# Altium footprint library Connector_Molex.PcbLib: 815 footprints (part 48 of 51)
Each footprint in its own frame and in the unit in brackets; x right, y up, seen from the top. Pads: shape width x height; smd on the part's side, far side on the other; paste and mask are expansions set on the pad; w line width, h text height; cw(c..) or ccw(c..) is an arc to the next point about the centre after c.
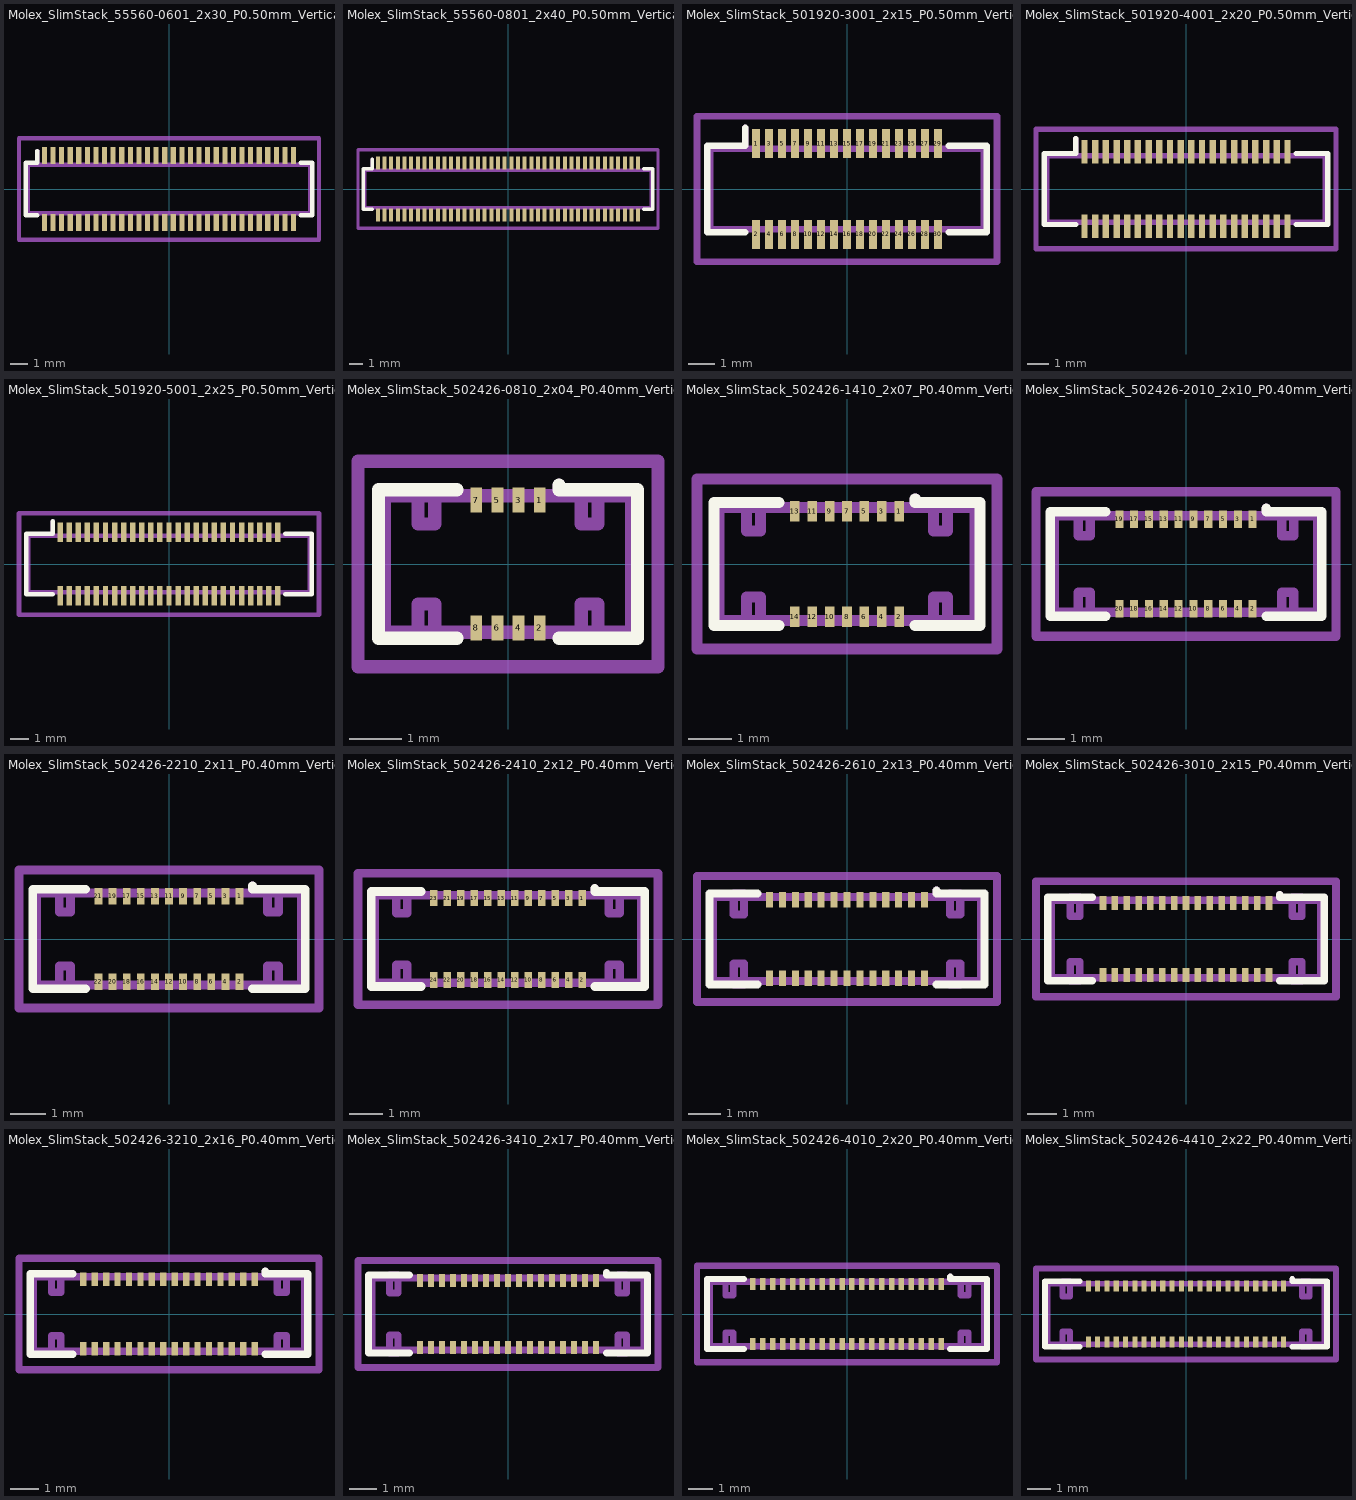
[diagram p47: the footprints below, top view; thin cyan lines are the x and y axes]

## Molex_SlimStack_55560-0601_2x30_P0.50mm_Vertical [mm]
pads (60):
  rect 0.3x1 smd: 1(-7.25,1.95) 2(-7.25,-1.95) 3(-6.75,1.95) 4(-6.75,-1.95) 5(-6.25,1.95) 6(-6.25,-1.95) 7(-5.75,1.95) 8(-5.75,-1.95) 9(-5.25,1.95) 10(-5.25,-1.95) 11(-4.75,1.95) 12(-4.75,-1.95) 13(-4.25,1.95) 14(-4.25,-1.95) 15(-3.75,1.95) 16(-3.75,-1.95) 17(-3.25,1.95) 18(-3.25,-1.95) 19(-2.75,1.95) 20(-2.75,-1.95) 21(-2.25,1.95) 22(-2.25,-1.95) 23(-1.75,1.95) 24(-1.75,-1.95) 25(-1.25,1.95) 26(-1.25,-1.95) 27(-0.75,1.95) 28(-0.75,-1.95) 29(-0.25,1.95) 30(-0.25,-1.95) 31(0.25,1.95) 32(0.25,-1.95) 33(0.75,1.95) 34(0.75,-1.95) 35(1.25,1.95) 36(1.25,-1.95) 37(1.75,1.95) 38(1.75,-1.95) 39(2.25,1.95) 40(2.25,-1.95) 41(2.75,1.95) 42(2.75,-1.95) 43(3.25,1.95) 44(3.25,-1.95) 45(3.75,1.95) 46(3.75,-1.95) 47(4.25,1.95) 48(4.25,-1.95) 49(4.75,1.95) 50(4.75,-1.95) 51(5.25,1.95) 52(5.25,-1.95) 53(5.75,1.95) 54(5.75,-1.95) 55(6.25,1.95) 56(6.25,-1.95) 57(6.75,1.95) 58(6.75,-1.95) 59(7.25,1.95) 60(7.25,-1.95)
F.SilkS:
  lines w0.254: -7.66,-1.525 -8.335,-1.525 -8.335,1.525 -7.66,1.525 -7.66,2.215 ; 7.66,-1.525 8.335,-1.525 8.335,1.525 7.66,1.525
Top Assembly:
  lines w0.254: -7.66,1.525 -7.66,2.215 ; -8.225,-1.415 8.225,-1.415 8.225,1.415 -8.225,1.415 -8.225,-1.415
  text "'.Designator'" at -4.047,-0.84 h1
Top Courtyard:
  lines w0.254: -8.73,-2.95 8.73,-2.95 8.73,2.95 -8.73,2.95 -8.73,-2.95
Top Designator:
  text ".Designator" at -7.618,-0.508 h1.52

## Molex_SlimStack_55560-0801_2x40_P0.50mm_Vertical [mm]
pads (80):
  rect 0.3x1 smd: 1(-9.75,1.95) 2(-9.75,-1.95) 3(-9.25,1.95) 4(-9.25,-1.95) 5(-8.75,1.95) 6(-8.75,-1.95) 7(-8.25,1.95) 8(-8.25,-1.95) 9(-7.75,1.95) 10(-7.75,-1.95) 11(-7.25,1.95) 12(-7.25,-1.95) 13(-6.75,1.95) 14(-6.75,-1.95) 15(-6.25,1.95) 16(-6.25,-1.95) 17(-5.75,1.95) 18(-5.75,-1.95) 19(-5.25,1.95) 20(-5.25,-1.95) 21(-4.75,1.95) 22(-4.75,-1.95) 23(-4.25,1.95) 24(-4.25,-1.95) 25(-3.75,1.95) 26(-3.75,-1.95) 27(-3.25,1.95) 28(-3.25,-1.95) 29(-2.75,1.95) 30(-2.75,-1.95) 31(-2.25,1.95) 32(-2.25,-1.95) 33(-1.75,1.95) 34(-1.75,-1.95) 35(-1.25,1.95) 36(-1.25,-1.95) 37(-0.75,1.95) 38(-0.75,-1.95) 39(-0.25,1.95) 40(-0.25,-1.95) 41(0.25,1.95) 42(0.25,-1.95) 43(0.75,1.95) 44(0.75,-1.95) 45(1.25,1.95) 46(1.25,-1.95) 47(1.75,1.95) 48(1.75,-1.95) 49(2.25,1.95) 50(2.25,-1.95) 51(2.75,1.95) 52(2.75,-1.95) 53(3.25,1.95) 54(3.25,-1.95) 55(3.75,1.95) 56(3.75,-1.95) 57(4.25,1.95) 58(4.25,-1.95) 59(4.75,1.95) 60(4.75,-1.95) 61(5.25,1.95) 62(5.25,-1.95) 63(5.75,1.95) 64(5.75,-1.95) 65(6.25,1.95) 66(6.25,-1.95) 67(6.75,1.95) 68(6.75,-1.95) 69(7.25,1.95) 70(7.25,-1.95) 71(7.75,1.95) 72(7.75,-1.95) 73(8.25,1.95) 74(8.25,-1.95) 75(8.75,1.95) 76(8.75,-1.95) 77(9.25,1.95) 78(9.25,-1.95) 79(9.75,1.95) 80(9.75,-1.95)
F.SilkS:
  lines w0.254: -10.16,-1.525 -10.835,-1.525 -10.835,1.525 -10.16,1.525 -10.16,2.215 ; 10.16,-1.525 10.835,-1.525 10.835,1.525 10.16,1.525
Top Assembly:
  lines w0.254: -10.16,1.525 -10.16,2.215 ; -10.725,-1.415 -10.725,1.415 10.725,1.415 10.725,-1.415 -10.725,-1.415
  text "'.Designator'" at -4.047,-0.84 h1
Top Courtyard:
  lines w0.254: -11.23,-2.95 -11.23,2.95 11.23,2.95 11.23,-2.95 -11.23,-2.95
Top Designator:
  text ".Designator" at -7.618,-0.508 h1.52

## Molex_SlimStack_501920-3001_2x15_P0.50mm_Vertical [mm]
pads (30):
  rect 0.3x1.1 smd: 1(-3.5,1.75) 2(-3.5,-1.75) 3(-3,1.75) 4(-3,-1.75) 5(-2.5,1.75) 6(-2.5,-1.75) 7(-2,1.75) 8(-2,-1.75) 9(-1.5,1.75) 10(-1.5,-1.75) 11(-1,1.75) 12(-1,-1.75) 13(-0.5,1.75) 14(-0.5,-1.75) 15(0,1.75) 16(0,-1.75) 17(0.5,1.75) 18(0.5,-1.75) 19(1,1.75) 20(1,-1.75) 21(1.5,1.75) 22(1.5,-1.75) 23(2,1.75) 24(2,-1.75) 25(2.5,1.75) 26(2.5,-1.75) 27(3,1.75) 28(3,-1.75) 29(3.5,1.75) 30(3.5,-1.75)
F.SilkS:
  lines w0.254: -3.91,-1.66 -5.38,-1.66 -5.38,1.66 -3.91,1.66 -3.91,2.35 ; 3.91,-1.66 5.38,-1.66 5.38,1.66 3.91,1.66
Top Assembly:
  lines w0.254: -3.91,1.66 -3.91,2.35 ; -5.27,-1.55 5.27,-1.55 5.27,1.55 -5.27,1.55 -5.27,-1.55
  text "'.Designator'" at -4.047,-0.84 h1
Top Courtyard:
  lines w0.254: -5.77,-2.8 5.77,-2.8 5.77,2.8 -5.77,2.8 -5.77,-2.8
Top Designator:
  text ".Designator" at -7.618,-0.508 h1.52

## Molex_SlimStack_501920-4001_2x20_P0.50mm_Vertical [mm]
pads (40):
  rect 0.3x1.1 smd: 1(-4.75,1.75) 2(-4.75,-1.75) 3(-4.25,1.75) 4(-4.25,-1.75) 5(-3.75,1.75) 6(-3.75,-1.75) 7(-3.25,1.75) 8(-3.25,-1.75) 9(-2.75,1.75) 10(-2.75,-1.75) 11(-2.25,1.75) 12(-2.25,-1.75) 13(-1.75,1.75) 14(-1.75,-1.75) 15(-1.25,1.75) 16(-1.25,-1.75) 17(-0.75,1.75) 18(-0.75,-1.75) 19(-0.25,1.75) 20(-0.25,-1.75) 21(0.25,1.75) 22(0.25,-1.75) 23(0.75,1.75) 24(0.75,-1.75) 25(1.25,1.75) 26(1.25,-1.75) 27(1.75,1.75) 28(1.75,-1.75) 29(2.25,1.75) 30(2.25,-1.75) 31(2.75,1.75) 32(2.75,-1.75) 33(3.25,1.75) 34(3.25,-1.75) 35(3.75,1.75) 36(3.75,-1.75) 37(4.25,1.75) 38(4.25,-1.75) 39(4.75,1.75) 40(4.75,-1.75)
F.SilkS:
  lines w0.254: -5.16,-1.66 -6.63,-1.66 -6.63,1.66 -5.16,1.66 -5.16,2.35 ; 5.16,-1.66 6.63,-1.66 6.63,1.66 5.16,1.66
Top Assembly:
  lines w0.254: -5.16,1.66 -5.16,2.35 ; -6.52,-1.55 6.52,-1.55 6.52,1.55 -6.52,1.55 -6.52,-1.55
  text "'.Designator'" at -4.047,-0.84 h1
Top Courtyard:
  lines w0.254: -7.02,-2.8 7.02,-2.8 7.02,2.8 -7.02,2.8 -7.02,-2.8
Top Designator:
  text ".Designator" at -7.618,-0.508 h1.52

## Molex_SlimStack_501920-5001_2x25_P0.50mm_Vertical [mm]
pads (50):
  rect 0.3x1.1 smd: 1(-6,1.75) 2(-6,-1.75) 3(-5.5,1.75) 4(-5.5,-1.75) 5(-5,1.75) 6(-5,-1.75) 7(-4.5,1.75) 8(-4.5,-1.75) 9(-4,1.75) 10(-4,-1.75) 11(-3.5,1.75) 12(-3.5,-1.75) 13(-3,1.75) 14(-3,-1.75) 15(-2.5,1.75) 16(-2.5,-1.75) 17(-2,1.75) 18(-2,-1.75) 19(-1.5,1.75) 20(-1.5,-1.75) 21(-1,1.75) 22(-1,-1.75) 23(-0.5,1.75) 24(-0.5,-1.75) 25(0,1.75) 26(0,-1.75) 27(0.5,1.75) 28(0.5,-1.75) 29(1,1.75) 30(1,-1.75) 31(1.5,1.75) 32(1.5,-1.75) 33(2,1.75) 34(2,-1.75) 35(2.5,1.75) 36(2.5,-1.75) 37(3,1.75) 38(3,-1.75) 39(3.5,1.75) 40(3.5,-1.75) 41(4,1.75) 42(4,-1.75) 43(4.5,1.75) 44(4.5,-1.75) 45(5,1.75) 46(5,-1.75) 47(5.5,1.75) 48(5.5,-1.75) 49(6,1.75) 50(6,-1.75)
F.SilkS:
  lines w0.254: -6.41,-1.66 -7.88,-1.66 -7.88,1.66 -6.41,1.66 -6.41,2.35 ; 6.41,-1.66 7.88,-1.66 7.88,1.66 6.41,1.66
Top Assembly:
  lines w0.254: -6.41,1.66 -6.41,2.35 ; -7.77,-1.55 7.77,-1.55 7.77,1.55 -7.77,1.55 -7.77,-1.55
  text "'.Designator'" at -4.047,-0.84 h1
Top Courtyard:
  lines w0.254: -8.27,-2.8 8.27,-2.8 8.27,2.8 -8.27,2.8 -8.27,-2.8
Top Designator:
  text ".Designator" at -7.618,-0.508 h1.52

## Molex_SlimStack_502426-0810_2x04_P0.40mm_Vertical [mm]
pads (8):
  rect 0.22x0.475 smd: 1(0.6,1.212) 2(0.6,-1.212) 3(0.2,1.212) 4(0.2,-1.212) 5(-0.2,1.212) 6(-0.2,-1.212) 7(-0.6,1.212) 8(-0.6,-1.212)
F.SilkS:
  lines w0.254: -0.97,-1.41 -2.46,-1.41 -2.46,1.41 -0.97,1.41 ; 0.97,-1.41 2.46,-1.41 2.46,1.41 0.97,1.41 0.97,1.5
Top Assembly:
  lines w0.254: 0.97,1.3 0.97,1.5 ; -2.35,-1.3 2.35,-1.3 2.35,1.3 -2.35,1.3 -2.35,-1.3
  text "'.Designator'" at -4.047,-0.84 h1
Top Courtyard:
  lines w0.254: -2.85,-1.95 2.85,-1.95 2.85,1.95 -2.85,1.95 -2.85,-1.95
Top Designator:
  text ".Designator" at -7.768,-0.508 h1.52
Board Shape:
  lines w0.254: -1.71,-1.41 -1.39,-1.41 -1.39,-0.76 -1.71,-0.76 -1.71,-1.41 ; -1.71,0.76 -1.39,0.76 -1.39,1.41 -1.71,1.41 -1.71,0.76 ; 1.39,-1.41 1.71,-1.41 1.71,-0.76 1.39,-0.76 1.39,-1.41 ; 1.39,0.76 1.71,0.76 1.71,1.41 1.39,1.41 1.39,0.76

## Molex_SlimStack_502426-1410_2x07_P0.40mm_Vertical [mm]
pads (14):
  rect 0.22x0.475 smd: 1(1.2,1.212) 2(1.2,-1.212) 3(0.8,1.212) 4(0.8,-1.212) 5(0.4,1.212) 6(0.4,-1.212) 7(0,1.212) 8(0,-1.212) 9(-0.4,1.212) 10(-0.4,-1.212) 11(-0.8,1.212) 12(-0.8,-1.212) 13(-1.2,1.212) 14(-1.2,-1.212)
F.SilkS:
  lines w0.254: -1.57,-1.41 -3.06,-1.41 -3.06,1.41 -1.57,1.41 ; 1.57,-1.41 3.06,-1.41 3.06,1.41 1.57,1.41 1.57,1.5
Top Assembly:
  lines w0.254: 1.57,1.3 1.57,1.5 ; -2.95,-1.3 2.95,-1.3 2.95,1.3 -2.95,1.3 -2.95,-1.3
  text "'.Designator'" at -4.047,-0.84 h1
Top Courtyard:
  lines w0.254: -3.45,-1.95 3.45,-1.95 3.45,1.95 -3.45,1.95 -3.45,-1.95
Top Designator:
  text ".Designator" at -7.768,-0.508 h1.52
Board Shape:
  lines w0.254: -2.31,-1.41 -1.99,-1.41 -1.99,-0.76 -2.31,-0.76 -2.31,-1.41 ; -2.31,0.76 -1.99,0.76 -1.99,1.41 -2.31,1.41 -2.31,0.76 ; 1.99,-1.41 2.31,-1.41 2.31,-0.76 1.99,-0.76 1.99,-1.41 ; 1.99,0.76 2.31,0.76 2.31,1.41 1.99,1.41 1.99,0.76

## Molex_SlimStack_502426-2010_2x10_P0.40mm_Vertical [mm]
pads (20):
  rect 0.22x0.475 smd: 1(1.8,1.212) 2(1.8,-1.212) 3(1.4,1.212) 4(1.4,-1.212) 5(1,1.212) 6(1,-1.212) 7(0.6,1.212) 8(0.6,-1.212) 9(0.2,1.212) 10(0.2,-1.212) 11(-0.2,1.212) 12(-0.2,-1.212) 13(-0.6,1.212) 14(-0.6,-1.212) 15(-1,1.212) 16(-1,-1.212) 17(-1.4,1.212) 18(-1.4,-1.212) 19(-1.8,1.212) 20(-1.8,-1.212)
F.SilkS:
  lines w0.254: -2.17,-1.41 -3.66,-1.41 -3.66,1.41 -2.17,1.41 ; 2.17,-1.41 3.66,-1.41 3.66,1.41 2.17,1.41 2.17,1.5
Top Assembly:
  lines w0.254: 2.17,1.3 2.17,1.5 ; -3.55,-1.3 3.55,-1.3 3.55,1.3 -3.55,1.3 -3.55,-1.3
  text "'.Designator'" at -4.047,-0.84 h1
Top Courtyard:
  lines w0.254: -4.05,-1.95 4.05,-1.95 4.05,1.95 -4.05,1.95 -4.05,-1.95
Top Designator:
  text ".Designator" at -7.627,-0.508 h1.52
Board Shape:
  lines w0.254: -2.91,-1.41 -2.59,-1.41 -2.59,-0.76 -2.91,-0.76 -2.91,-1.41 ; -2.91,0.76 -2.59,0.76 -2.59,1.41 -2.91,1.41 -2.91,0.76 ; 2.59,-1.41 2.91,-1.41 2.91,-0.76 2.59,-0.76 2.59,-1.41 ; 2.59,0.76 2.91,0.76 2.91,1.41 2.59,1.41 2.59,0.76

## Molex_SlimStack_502426-2210_2x11_P0.40mm_Vertical [mm]
pads (22):
  rect 0.22x0.475 smd: 1(2,1.212) 2(2,-1.212) 3(1.6,1.212) 4(1.6,-1.212) 5(1.2,1.212) 6(1.2,-1.212) 7(0.8,1.212) 8(0.8,-1.212) 9(0.4,1.212) 10(0.4,-1.212) 11(0,1.212) 12(0,-1.212) 13(-0.4,1.212) 14(-0.4,-1.212) 15(-0.8,1.212) 16(-0.8,-1.212) 17(-1.2,1.212) 18(-1.2,-1.212) 19(-1.6,1.212) 20(-1.6,-1.212) 21(-2,1.212) 22(-2,-1.212)
F.SilkS:
  lines w0.254: -2.37,-1.41 -3.86,-1.41 -3.86,1.41 -2.37,1.41 ; 2.37,-1.41 3.86,-1.41 3.86,1.41 2.37,1.41 2.37,1.5
Top Assembly:
  lines w0.254: 2.37,1.3 2.37,1.5 ; -3.75,-1.3 3.75,-1.3 3.75,1.3 -3.75,1.3 -3.75,-1.3
  text "'.Designator'" at -4.047,-0.84 h1
Top Courtyard:
  lines w0.254: -4.25,-1.95 4.25,-1.95 4.25,1.95 -4.25,1.95 -4.25,-1.95
Top Designator:
  text ".Designator" at -7.618,-0.508 h1.52
Board Shape:
  lines w0.254: -3.11,-1.41 -2.79,-1.41 -2.79,-0.76 -3.11,-0.76 -3.11,-1.41 ; -3.11,0.76 -2.79,0.76 -2.79,1.41 -3.11,1.41 -3.11,0.76 ; 2.79,-1.41 3.11,-1.41 3.11,-0.76 2.79,-0.76 2.79,-1.41 ; 2.79,0.76 3.11,0.76 3.11,1.41 2.79,1.41 2.79,0.76

## Molex_SlimStack_502426-2410_2x12_P0.40mm_Vertical [mm]
pads (24):
  rect 0.22x0.475 smd: 1(2.2,1.212) 2(2.2,-1.212) 3(1.8,1.212) 4(1.8,-1.212) 5(1.4,1.212) 6(1.4,-1.212) 7(1,1.212) 8(1,-1.212) 9(0.6,1.212) 10(0.6,-1.212) 11(0.2,1.212) 12(0.2,-1.212) 13(-0.2,1.212) 14(-0.2,-1.212) 15(-0.6,1.212) 16(-0.6,-1.212) 17(-1,1.212) 18(-1,-1.212) 19(-1.4,1.212) 20(-1.4,-1.212) 21(-1.8,1.212) 22(-1.8,-1.212) 23(-2.2,1.212) 24(-2.2,-1.212)
F.SilkS:
  lines w0.254: -2.57,-1.41 -4.06,-1.41 -4.06,1.41 -2.57,1.41 ; 2.57,-1.41 4.06,-1.41 4.06,1.41 2.57,1.41 2.57,1.5
Top Assembly:
  lines w0.254: 2.57,1.3 2.57,1.5 ; -3.95,-1.3 3.95,-1.3 3.95,1.3 -3.95,1.3 -3.95,-1.3
  text "'.Designator'" at -4.047,-0.84 h1
Top Courtyard:
  lines w0.254: -4.45,-1.95 4.45,-1.95 4.45,1.95 -4.45,1.95 -4.45,-1.95
Top Designator:
  text ".Designator" at -7.618,-0.508 h1.52
Board Shape:
  lines w0.254: -3.31,-1.41 -2.99,-1.41 -2.99,-0.76 -3.31,-0.76 -3.31,-1.41 ; -3.31,0.76 -2.99,0.76 -2.99,1.41 -3.31,1.41 -3.31,0.76 ; 2.99,-1.41 3.31,-1.41 3.31,-0.76 2.99,-0.76 2.99,-1.41 ; 2.99,0.76 3.31,0.76 3.31,1.41 2.99,1.41 2.99,0.76

## Molex_SlimStack_502426-2610_2x13_P0.40mm_Vertical [mm]
pads (26):
  rect 0.22x0.475 smd: 1(2.4,1.212) 2(2.4,-1.212) 3(2,1.212) 4(2,-1.212) 5(1.6,1.212) 6(1.6,-1.212) 7(1.2,1.212) 8(1.2,-1.212) 9(0.8,1.212) 10(0.8,-1.212) 11(0.4,1.212) 12(0.4,-1.212) 13(0,1.212) 14(0,-1.212) 15(-0.4,1.212) 16(-0.4,-1.212) 17(-0.8,1.212) 18(-0.8,-1.212) 19(-1.2,1.212) 20(-1.2,-1.212) 21(-1.6,1.212) 22(-1.6,-1.212) 23(-2,1.212) 24(-2,-1.212) 25(-2.4,1.212) 26(-2.4,-1.212)
F.SilkS:
  lines w0.254: -2.77,-1.41 -4.26,-1.41 -4.26,1.41 -2.77,1.41 ; 2.77,-1.41 4.26,-1.41 4.26,1.41 2.77,1.41 2.77,1.5
Top Assembly:
  lines w0.254: 2.77,1.3 2.77,1.5 ; -4.15,-1.3 4.15,-1.3 4.15,1.3 -4.15,1.3 -4.15,-1.3
  text "'.Designator'" at -4.047,-0.84 h1
Top Courtyard:
  lines w0.254: -4.65,-1.95 4.65,-1.95 4.65,1.95 -4.65,1.95 -4.65,-1.95
Top Designator:
  text ".Designator" at -7.618,-0.508 h1.52
Board Shape:
  lines w0.254: -3.51,-1.41 -3.19,-1.41 -3.19,-0.76 -3.51,-0.76 -3.51,-1.41 ; -3.51,0.76 -3.19,0.76 -3.19,1.41 -3.51,1.41 -3.51,0.76 ; 3.19,-1.41 3.51,-1.41 3.51,-0.76 3.19,-0.76 3.19,-1.41 ; 3.19,0.76 3.51,0.76 3.51,1.41 3.19,1.41 3.19,0.76

## Molex_SlimStack_502426-3010_2x15_P0.40mm_Vertical [mm]
pads (30):
  rect 0.22x0.475 smd: 1(2.8,1.212) 2(2.8,-1.212) 3(2.4,1.212) 4(2.4,-1.212) 5(2,1.212) 6(2,-1.212) 7(1.6,1.212) 8(1.6,-1.212) 9(1.2,1.212) 10(1.2,-1.212) 11(0.8,1.212) 12(0.8,-1.212) 13(0.4,1.212) 14(0.4,-1.212) 15(0,1.212) 16(0,-1.212) 17(-0.4,1.212) 18(-0.4,-1.212) 19(-0.8,1.212) 20(-0.8,-1.212) 21(-1.2,1.212) 22(-1.2,-1.212) 23(-1.6,1.212) 24(-1.6,-1.212) 25(-2,1.212) 26(-2,-1.212) 27(-2.4,1.212) 28(-2.4,-1.212) 29(-2.8,1.212) 30(-2.8,-1.212)
F.SilkS:
  lines w0.254: -3.17,-1.41 -4.66,-1.41 -4.66,1.41 -3.17,1.41 ; 3.17,-1.41 4.66,-1.41 4.66,1.41 3.17,1.41 3.17,1.5
Top Assembly:
  lines w0.254: 3.17,1.3 3.17,1.5 ; -4.55,-1.3 4.55,-1.3 4.55,1.3 -4.55,1.3 -4.55,-1.3
  text "'.Designator'" at -4.047,-0.84 h1
Top Courtyard:
  lines w0.254: -5.06,-1.95 5.06,-1.95 5.06,1.95 -5.06,1.95 -5.06,-1.95
Top Designator:
  text ".Designator" at -7.618,-0.508 h1.52
Board Shape:
  lines w0.254: -3.91,-1.41 -3.59,-1.41 -3.59,-0.76 -3.91,-0.76 -3.91,-1.41 ; -3.91,0.76 -3.59,0.76 -3.59,1.41 -3.91,1.41 -3.91,0.76 ; 3.59,-1.41 3.91,-1.41 3.91,-0.76 3.59,-0.76 3.59,-1.41 ; 3.59,0.76 3.91,0.76 3.91,1.41 3.59,1.41 3.59,0.76

## Molex_SlimStack_502426-3210_2x16_P0.40mm_Vertical [mm]
pads (32):
  rect 0.22x0.475 smd: 1(3,1.212) 2(3,-1.212) 3(2.6,1.212) 4(2.6,-1.212) 5(2.2,1.212) 6(2.2,-1.212) 7(1.8,1.212) 8(1.8,-1.212) 9(1.4,1.212) 10(1.4,-1.212) 11(1,1.212) 12(1,-1.212) 13(0.6,1.212) 14(0.6,-1.212) 15(0.2,1.212) 16(0.2,-1.212) 17(-0.2,1.212) 18(-0.2,-1.212) 19(-0.6,1.212) 20(-0.6,-1.212) 21(-1,1.212) 22(-1,-1.212) 23(-1.4,1.212) 24(-1.4,-1.212) 25(-1.8,1.212) 26(-1.8,-1.212) 27(-2.2,1.212) 28(-2.2,-1.212) 29(-2.6,1.212) 30(-2.6,-1.212) 31(-3,1.212) 32(-3,-1.212)
F.SilkS:
  lines w0.254: -3.37,-1.41 -4.86,-1.41 -4.86,1.41 -3.37,1.41 ; 3.37,-1.41 4.86,-1.41 4.86,1.41 3.37,1.41 3.37,1.5
Top Assembly:
  lines w0.254: 3.37,1.3 3.37,1.5 ; -4.75,-1.3 4.75,-1.3 4.75,1.3 -4.75,1.3 -4.75,-1.3
  text "'.Designator'" at -4.047,-0.84 h1
Top Courtyard:
  lines w0.254: -5.25,-1.95 5.25,-1.95 5.25,1.95 -5.25,1.95 -5.25,-1.95
Top Designator:
  text ".Designator" at -7.618,-0.508 h1.52
Board Shape:
  lines w0.254: -4.11,-1.41 -3.79,-1.41 -3.79,-0.76 -4.11,-0.76 -4.11,-1.41 ; -4.11,0.76 -3.79,0.76 -3.79,1.41 -4.11,1.41 -4.11,0.76 ; 3.79,-1.41 4.11,-1.41 4.11,-0.76 3.79,-0.76 3.79,-1.41 ; 3.79,0.76 4.11,0.76 4.11,1.41 3.79,1.41 3.79,0.76

## Molex_SlimStack_502426-3410_2x17_P0.40mm_Vertical [mm]
pads (34):
  rect 0.22x0.475 smd: 1(3.2,1.212) 2(3.2,-1.212) 3(2.8,1.212) 4(2.8,-1.212) 5(2.4,1.212) 6(2.4,-1.212) 7(2,1.212) 8(2,-1.212) 9(1.6,1.212) 10(1.6,-1.212) 11(1.2,1.212) 12(1.2,-1.212) 13(0.8,1.212) 14(0.8,-1.212) 15(0.4,1.212) 16(0.4,-1.212) 17(0,1.212) 18(0,-1.212) 19(-0.4,1.212) 20(-0.4,-1.212) 21(-0.8,1.212) 22(-0.8,-1.212) 23(-1.2,1.212) 24(-1.2,-1.212) 25(-1.6,1.212) 26(-1.6,-1.212) 27(-2,1.212) 28(-2,-1.212) 29(-2.4,1.212) 30(-2.4,-1.212) 31(-2.8,1.212) 32(-2.8,-1.212) 33(-3.2,1.212) 34(-3.2,-1.212)
F.SilkS:
  lines w0.254: -3.57,-1.41 -5.06,-1.41 -5.06,1.41 -3.57,1.41 ; 3.57,-1.41 5.06,-1.41 5.06,1.41 3.57,1.41 3.57,1.5
Top Assembly:
  lines w0.254: 3.57,1.3 3.57,1.5 ; -4.95,-1.3 4.95,-1.3 4.95,1.3 -4.95,1.3 -4.95,-1.3
  text "'.Designator'" at -4.047,-0.84 h1
Top Courtyard:
  lines w0.254: -5.45,-1.95 5.45,-1.95 5.45,1.95 -5.45,1.95 -5.45,-1.95
Top Designator:
  text ".Designator" at -7.618,-0.508 h1.52
Board Shape:
  lines w0.254: -4.31,-1.41 -3.99,-1.41 -3.99,-0.76 -4.31,-0.76 -4.31,-1.41 ; -4.31,0.76 -3.99,0.76 -3.99,1.41 -4.31,1.41 -4.31,0.76 ; 3.99,-1.41 4.31,-1.41 4.31,-0.76 3.99,-0.76 3.99,-1.41 ; 3.99,0.76 4.31,0.76 4.31,1.41 3.99,1.41 3.99,0.76

## Molex_SlimStack_502426-4010_2x20_P0.40mm_Vertical [mm]
pads (40):
  rect 0.22x0.475 smd: 1(3.8,1.212) 2(3.8,-1.212) 3(3.4,1.212) 4(3.4,-1.212) 5(3,1.212) 6(3,-1.212) 7(2.6,1.212) 8(2.6,-1.212) 9(2.2,1.212) 10(2.2,-1.212) 11(1.8,1.212) 12(1.8,-1.212) 13(1.4,1.212) 14(1.4,-1.212) 15(1,1.212) 16(1,-1.212) 17(0.6,1.212) 18(0.6,-1.212) 19(0.2,1.212) 20(0.2,-1.212) 21(-0.2,1.212) 22(-0.2,-1.212) 23(-0.6,1.212) 24(-0.6,-1.212) 25(-1,1.212) 26(-1,-1.212) 27(-1.4,1.212) 28(-1.4,-1.212) 29(-1.8,1.212) 30(-1.8,-1.212) 31(-2.2,1.212) 32(-2.2,-1.212) 33(-2.6,1.212) 34(-2.6,-1.212) 35(-3,1.212) 36(-3,-1.212) 37(-3.4,1.212) 38(-3.4,-1.212) 39(-3.8,1.212) 40(-3.8,-1.212)
F.SilkS:
  lines w0.254: -4.17,-1.41 -5.66,-1.41 -5.66,1.41 -4.17,1.41 ; 4.17,-1.41 5.66,-1.41 5.66,1.41 4.17,1.41 4.17,1.5
Top Assembly:
  lines w0.254: 4.17,1.3 4.17,1.5 ; -5.55,-1.3 5.55,-1.3 5.55,1.3 -5.55,1.3 -5.55,-1.3
  text "'.Designator'" at -4.047,-0.84 h1
Top Courtyard:
  lines w0.254: -6.06,-1.95 6.06,-1.95 6.06,1.95 -6.06,1.95 -6.06,-1.95
Top Designator:
  text ".Designator" at -7.618,-0.508 h1.52
Board Shape:
  lines w0.254: -4.91,-1.41 -4.59,-1.41 -4.59,-0.76 -4.91,-0.76 -4.91,-1.41 ; -4.91,0.76 -4.59,0.76 -4.59,1.41 -4.91,1.41 -4.91,0.76 ; 4.59,-1.41 4.91,-1.41 4.91,-0.76 4.59,-0.76 4.59,-1.41 ; 4.59,0.76 4.91,0.76 4.91,1.41 4.59,1.41 4.59,0.76

## Molex_SlimStack_502426-4410_2x22_P0.40mm_Vertical [mm]
pads (44):
  rect 0.22x0.475 smd: 1(4.2,1.212) 2(4.2,-1.212) 3(3.8,1.212) 4(3.8,-1.212) 5(3.4,1.212) 6(3.4,-1.212) 7(3,1.212) 8(3,-1.212) 9(2.6,1.212) 10(2.6,-1.212) 11(2.2,1.212) 12(2.2,-1.212) 13(1.8,1.212) 14(1.8,-1.212) 15(1.4,1.212) 16(1.4,-1.212) 17(1,1.212) 18(1,-1.212) 19(0.6,1.212) 20(0.6,-1.212) 21(0.2,1.212) 22(0.2,-1.212) 23(-0.2,1.212) 24(-0.2,-1.212) 25(-0.6,1.212) 26(-0.6,-1.212) 27(-1,1.212) 28(-1,-1.212) 29(-1.4,1.212) 30(-1.4,-1.212) 31(-1.8,1.212) 32(-1.8,-1.212) 33(-2.2,1.212) 34(-2.2,-1.212) 35(-2.6,1.212) 36(-2.6,-1.212) 37(-3,1.212) 38(-3,-1.212) 39(-3.4,1.212) 40(-3.4,-1.212) 41(-3.8,1.212) 42(-3.8,-1.212) 43(-4.2,1.212) 44(-4.2,-1.212)
F.SilkS:
  lines w0.254: -4.57,-1.41 -6.06,-1.41 -6.06,1.41 -4.57,1.41 ; 4.57,-1.41 6.06,-1.41 6.06,1.41 4.57,1.41 4.57,1.5
Top Assembly:
  lines w0.254: 4.57,1.3 4.57,1.5 ; -5.95,-1.3 5.95,-1.3 5.95,1.3 -5.95,1.3 -5.95,-1.3
  text "'.Designator'" at -4.047,-0.84 h1
Top Courtyard:
  lines w0.254: -6.45,-1.95 6.45,-1.95 6.45,1.95 -6.45,1.95 -6.45,-1.95
Top Designator:
  text ".Designator" at -7.618,-0.508 h1.52
Board Shape:
  lines w0.254: -5.31,-1.41 -4.99,-1.41 -4.99,-0.76 -5.31,-0.76 -5.31,-1.41 ; -5.31,0.76 -4.99,0.76 -4.99,1.41 -5.31,1.41 -5.31,0.76 ; 4.99,-1.41 5.31,-1.41 5.31,-0.76 4.99,-0.76 4.99,-1.41 ; 4.99,0.76 5.31,0.76 5.31,1.41 4.99,1.41 4.99,0.76